# Altium footprint library LQFP贴片芯片.PcbLib: 18 footprints (part 2 of 2)
Each footprint in its own frame and in the unit in brackets; x right, y up, seen from the top. Pads: shape width x height; smd on the part's side, far side on the other; paste and mask are expansions set on the pad; w line width, h text height; cw(c..) or ccw(c..) is an arc to the next point about the centre after c.
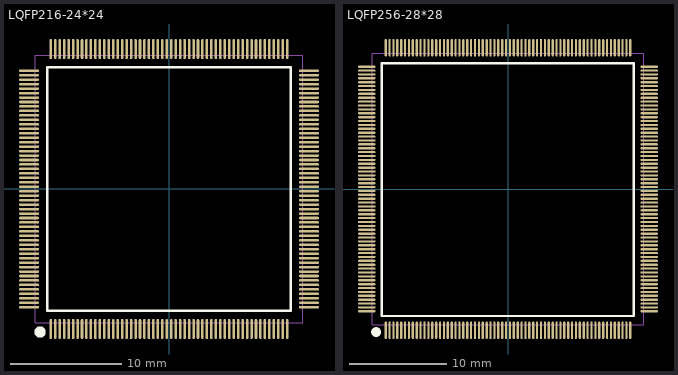
[diagram p1: the footprints below, top view; thin cyan lines are the x and y axes]

## LQFP216-24*24 [mm] "24x24mm，0.4mm（蒜米工坊）"
pads (216):
  oval 0.23x1.8 smd: 1(-10.6,-12.551) 2(-10.2,-12.551) 3(-9.8,-12.551) 4(-9.4,-12.551) 5(-9,-12.551) 6(-8.6,-12.551) 7(-8.2,-12.551) 8(-7.8,-12.551) 9(-7.4,-12.551) 10(-7,-12.551) 11(-6.6,-12.551) 12(-6.2,-12.551) 13(-5.8,-12.551) 14(-5.4,-12.551) 15(-5,-12.551) 16(-4.6,-12.551) 17(-4.2,-12.551) 18(-3.8,-12.551) 19(-3.4,-12.551) 20(-3,-12.551) 21(-2.6,-12.551) 22(-2.2,-12.551) 23(-1.8,-12.551) 24(-1.4,-12.551) 25(-1,-12.551) 26(-0.6,-12.551) 27(-0.2,-12.551) 28(0.2,-12.551) 29(0.6,-12.551) 30(1,-12.551) 31(1.4,-12.551) 32(1.8,-12.551) 33(2.2,-12.551) 34(2.6,-12.551) 35(3,-12.551) 36(3.4,-12.551) 37(3.8,-12.551) 38(4.2,-12.551) 39(4.6,-12.551) 40(5,-12.551) 41(5.4,-12.551) 42(5.8,-12.551) 43(6.2,-12.551) 44(6.6,-12.551) 45(7,-12.551) 46(7.4,-12.551) 47(7.8,-12.551) 48(8.2,-12.551) 49(8.6,-12.551) 50(9,-12.551) 51(9.4,-12.551) 52(9.8,-12.551) 53(10.2,-12.551) 54(10.6,-12.551) 109(10.6,12.548) 110(10.2,12.548) 111(9.8,12.548) 112(9.4,12.548) 113(9,12.548) 114(8.6,12.548) 115(8.2,12.548) 116(7.8,12.548) 117(7.4,12.548) 118(7,12.548) 119(6.6,12.548) 120(6.2,12.548) 121(5.8,12.548) 122(5.4,12.548) 123(5,12.548) 124(4.6,12.548) 125(4.2,12.548) 126(3.8,12.548) 127(3.4,12.548) 128(3,12.548) 129(2.6,12.548) 130(2.2,12.548) 131(1.8,12.548) 132(1.4,12.548) 133(1,12.548) 134(0.6,12.548) 135(0.2,12.548) 136(-0.2,12.548) 137(-0.6,12.548) 138(-1,12.548) 139(-1.4,12.548) 140(-1.8,12.548) 141(-2.2,12.548) 142(-2.6,12.548) 143(-3,12.548) 144(-3.4,12.548) 145(-3.8,12.548) 146(-4.2,12.548) 147(-4.6,12.548) 148(-5,12.548) 149(-5.4,12.548) 150(-5.8,12.548) 151(-6.2,12.548) 152(-6.6,12.548) 153(-7,12.548) 154(-7.4,12.548) 155(-7.8,12.548) 156(-8.2,12.548) 157(-8.6,12.548) 158(-9,12.548) 159(-9.4,12.548) 160(-9.8,12.548) 161(-10.2,12.548) 162(-10.6,12.548)
  oval 1.8x0.23 smd: 55(12.549,-10.602) 56(12.549,-10.202) 57(12.549,-9.802) 58(12.549,-9.402) 59(12.549,-9.002) 60(12.549,-8.602) 61(12.549,-8.202) 62(12.549,-7.802) 63(12.549,-7.402) 64(12.549,-7.002) 65(12.549,-6.602) 66(12.549,-6.202) 67(12.549,-5.802) 68(12.549,-5.402) 69(12.549,-5.002) 70(12.549,-4.602) 71(12.549,-4.202) 72(12.549,-3.802) 73(12.549,-3.402) 74(12.549,-3.002) 75(12.549,-2.602) 76(12.549,-2.202) 77(12.549,-1.802) 78(12.549,-1.402) 79(12.549,-1.002) 80(12.549,-0.602) 81(12.549,-0.202) 82(12.549,0.198) 83(12.549,0.598) 84(12.549,0.998) 85(12.549,1.398) 86(12.549,1.798) 87(12.549,2.198) 88(12.549,2.598) 89(12.549,2.998) 90(12.549,3.398) 91(12.549,3.798) 92(12.549,4.198) 93(12.549,4.598) 94(12.549,4.998) 95(12.549,5.398) 96(12.549,5.798) 97(12.549,6.198) 98(12.549,6.598) 99(12.549,6.998) 100(12.549,7.398) 101(12.549,7.798) 102(12.549,8.198) 103(12.549,8.598) 104(12.549,8.998) 105(12.549,9.398) 106(12.549,9.798) 107(12.549,10.198) 108(12.549,10.598) 163(-12.549,10.598) 164(-12.549,10.198) 165(-12.549,9.798) 166(-12.549,9.398) 167(-12.549,8.998) 168(-12.549,8.598) 169(-12.549,8.198) 170(-12.549,7.798) 171(-12.549,7.398) 172(-12.549,6.998) 173(-12.549,6.598) 174(-12.549,6.198) 175(-12.549,5.798) 176(-12.549,5.398) 177(-12.549,4.998) 178(-12.549,4.598) 179(-12.549,4.198) 180(-12.549,3.798) 181(-12.549,3.398) 182(-12.549,2.998) 183(-12.549,2.598) 184(-12.549,2.198) 185(-12.549,1.798) 186(-12.549,1.398) 187(-12.549,0.998) 188(-12.549,0.598) 189(-12.549,0.198) 190(-12.549,-0.202) 191(-12.549,-0.602) 192(-12.549,-1.002) 193(-12.549,-1.402) 194(-12.549,-1.802) 195(-12.549,-2.202) 196(-12.549,-2.602) 197(-12.549,-3.002) 198(-12.549,-3.402) 199(-12.549,-3.802) 200(-12.549,-4.202) 201(-12.549,-4.602) 202(-12.549,-5.002) 203(-12.549,-5.402) 204(-12.549,-5.802) 205(-12.549,-6.202) 206(-12.549,-6.602) 207(-12.549,-7.002) 208(-12.549,-7.402) 209(-12.549,-7.802) 210(-12.549,-8.202) 211(-12.549,-8.602) 212(-12.549,-9.002) 213(-12.549,-9.402) 214(-12.549,-9.802) 215(-12.549,-10.202) 216(-12.549,-10.602)
Top Overlay:
  circle w0.508: c-11.557,-12.827 r0.25
  lines w0.254: -10.922,-10.924 -10.922,10.92 10.922,10.92 10.922,-10.924 -10.922,-10.924
Mechanical 13:
  lines w0.1: -12,-12.002 12,-12.002 12,11.998 -12,11.998 -12,-12.002
3D body "LQFP216-24x24.STEP": height 1.45, standoff 0, extent -12.954,-12.954 13.052,13.052

## LQFP256-28*28 [mm] "28x28mm，0.4mm（蒜米工坊）"
pads (256):
  oval 0.23x1.8 smd: 1(-12.605,-14.548) 2(-12.205,-14.548) 3(-11.805,-14.548) 4(-11.405,-14.548) 5(-11.005,-14.548) 6(-10.605,-14.548) 7(-10.205,-14.548) 8(-9.805,-14.548) 9(-9.405,-14.548) 10(-9.005,-14.548) 11(-8.605,-14.548) 12(-8.205,-14.548) 13(-7.805,-14.548) 14(-7.405,-14.548) 15(-7.005,-14.548) 16(-6.605,-14.548) 17(-6.205,-14.548) 18(-5.805,-14.548) 19(-5.405,-14.548) 20(-5.005,-14.548) 21(-4.605,-14.548) 22(-4.205,-14.548) 23(-3.805,-14.548) 24(-3.405,-14.548) 25(-3.005,-14.548) 26(-2.605,-14.548) 27(-2.205,-14.548) 28(-1.805,-14.548) 29(-1.405,-14.548) 30(-1.005,-14.548) 31(-0.605,-14.548) 32(-0.205,-14.548) 33(0.195,-14.548) 34(0.595,-14.548) 35(0.995,-14.548) 36(1.395,-14.548) 37(1.795,-14.548) 38(2.195,-14.548) 39(2.595,-14.548) 40(2.995,-14.548) 41(3.395,-14.548) 42(3.795,-14.548) 43(4.195,-14.548) 44(4.595,-14.548) 45(4.995,-14.548) 46(5.395,-14.548) 47(5.795,-14.548) 48(6.195,-14.548) 49(6.595,-14.548) 50(6.995,-14.548) 51(7.395,-14.548) 52(7.795,-14.548) 53(8.195,-14.548) 54(8.595,-14.548) 55(8.995,-14.548) 56(9.395,-14.548) 57(9.795,-14.548) 58(10.195,-14.548) 59(10.595,-14.548) 60(10.995,-14.548) 61(11.395,-14.548) 62(11.795,-14.548) 63(12.195,-14.548) 64(12.595,-14.548) 129(12.595,14.551) 130(12.195,14.551) 131(11.795,14.551) 132(11.395,14.551) 133(10.995,14.551) 134(10.595,14.551) 135(10.195,14.551) 136(9.795,14.551) 137(9.395,14.551) 138(8.995,14.551) 139(8.595,14.551) 140(8.195,14.551) 141(7.795,14.551) 142(7.395,14.551) 143(6.995,14.551) 144(6.595,14.551) 145(6.195,14.551) 146(5.795,14.551) 147(5.395,14.551) 148(4.995,14.551) 149(4.595,14.551) 150(4.195,14.551) 151(3.795,14.551) 152(3.395,14.551) 153(2.995,14.551) 154(2.595,14.551) 155(2.195,14.551) 156(1.795,14.551) 157(1.395,14.551) 158(0.995,14.551) 159(0.595,14.551) 160(0.195,14.551) 161(-0.205,14.551) 162(-0.605,14.551) 163(-1.005,14.551) 164(-1.405,14.551) 165(-1.805,14.551) 166(-2.205,14.551) 167(-2.605,14.551) 168(-3.005,14.551) 169(-3.405,14.551) 170(-3.805,14.551) 171(-4.205,14.551) 172(-4.605,14.551) 173(-5.005,14.551) 174(-5.405,14.551) 175(-5.805,14.551) 176(-6.205,14.551) 177(-6.605,14.551) 178(-7.005,14.551) 179(-7.405,14.551) 180(-7.805,14.551) 181(-8.205,14.551) 182(-8.605,14.551) 183(-9.005,14.551) 184(-9.405,14.551) 185(-9.805,14.551) 186(-10.205,14.551) 187(-10.605,14.551) 188(-11.005,14.551) 189(-11.405,14.551) 190(-11.805,14.551) 191(-12.205,14.551) 192(-12.605,14.551)
  oval 1.8x0.23 smd: 65(14.544,-12.598) 66(14.544,-12.198) 67(14.544,-11.798) 68(14.544,-11.398) 69(14.544,-10.998) 70(14.544,-10.598) 71(14.544,-10.198) 72(14.544,-9.798) 73(14.544,-9.398) 74(14.544,-8.998) 75(14.544,-8.598) 76(14.544,-8.198) 77(14.544,-7.798) 78(14.544,-7.398) 79(14.544,-6.998) 80(14.544,-6.598) 81(14.544,-6.198) 82(14.544,-5.798) 83(14.544,-5.398) 84(14.544,-4.998) 85(14.544,-4.598) 86(14.544,-4.198) 87(14.544,-3.798) 88(14.544,-3.398) 89(14.544,-2.998) 90(14.544,-2.598) 91(14.544,-2.198) 92(14.544,-1.798) 93(14.544,-1.398) 94(14.544,-0.998) 95(14.544,-0.598) 96(14.544,-0.198) 97(14.544,0.202) 98(14.544,0.602) 99(14.544,1.002) 100(14.544,1.402) 101(14.544,1.802) 102(14.544,2.202) 103(14.544,2.602) 104(14.544,3.002) 105(14.544,3.402) 106(14.544,3.802) 107(14.544,4.202) 108(14.544,4.602) 109(14.544,5.002) 110(14.544,5.402) 111(14.544,5.802) 112(14.544,6.202) 113(14.544,6.602) 114(14.544,7.002) 115(14.544,7.402) 116(14.544,7.802) 117(14.544,8.202) 118(14.544,8.602) 119(14.544,9.002) 120(14.544,9.402) 121(14.544,9.802) 122(14.544,10.202) 123(14.544,10.602) 124(14.544,11.002) 125(14.544,11.402) 126(14.544,11.802) 127(14.544,12.202) 128(14.544,12.602) 193(-14.554,12.602) 194(-14.554,12.202) 195(-14.554,11.802) 196(-14.554,11.402) 197(-14.554,11.002) 198(-14.554,10.602) 199(-14.554,10.202) 200(-14.554,9.802) 201(-14.554,9.402) 202(-14.554,9.002) 203(-14.554,8.602) 204(-14.554,8.202) 205(-14.554,7.802) 206(-14.554,7.402) 207(-14.554,7.002) 208(-14.554,6.602) 209(-14.554,6.202) 210(-14.554,5.802) 211(-14.554,5.402) 212(-14.554,5.002) 213(-14.554,4.602) 214(-14.554,4.202) 215(-14.554,3.802) 216(-14.554,3.402) 217(-14.554,3.002) 218(-14.554,2.602) 219(-14.554,2.202) 220(-14.554,1.802) 221(-14.554,1.402) 222(-14.554,1.002) 223(-14.554,0.602) 224(-14.554,0.202) 225(-14.554,-0.198) 226(-14.554,-0.598) 227(-14.554,-0.998) 228(-14.554,-1.398) 229(-14.554,-1.798) 230(-14.554,-2.198) 231(-14.554,-2.598) 232(-14.554,-2.998) 233(-14.554,-3.398) 234(-14.554,-3.798) 235(-14.554,-4.198) 236(-14.554,-4.598) 237(-14.554,-4.998) 238(-14.554,-5.398) 239(-14.554,-5.798) 240(-14.554,-6.198) 241(-14.554,-6.598) 242(-14.554,-6.998) 243(-14.554,-7.398) 244(-14.554,-7.798) 245(-14.554,-8.198) 246(-14.554,-8.598) 247(-14.554,-8.998) 248(-14.554,-9.398) 249(-14.554,-9.798) 250(-14.554,-10.198) 251(-14.554,-10.598) 252(-14.554,-10.998) 253(-14.554,-11.398) 254(-14.554,-11.798) 255(-14.554,-12.198) 256(-14.554,-12.598)
Top Overlay:
  circle w0.508: c-13.589,-14.732 r0.25
  lines w0.254: -13.005,-13.079 12.949,-13.079 12.949,12.956 -13.005,12.956 -13.005,-13.079
Mechanical 13:
  lines w0.1: -14.005,-13.998 13.995,-13.998 13.995,14.002 -14.005,14.002 -14.005,-13.998
3D body "LQFP256-28x28.STEP": height 1.45, standoff 0, extent -14.986,-14.986 15.02,15.02